# Altium schematic symbol library INA219AIDCN.SchLib: 1 symbol
Pins are listed as number, name and electrical type; pins without a type are passive.

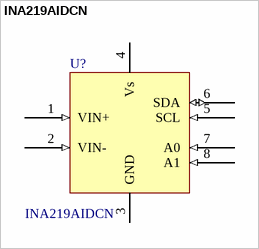
[diagram p0: symbol INA219AIDCN]

## INA219AIDCN
designator U?
pins: 1 VIN+ (in), 2 VIN- (in), 3 GND (power), 4 Vs (power), 5 SCL (in), 6 SDA (io), 7 A0 (in), 8 A1 (in)